# Altium footprint library ST7789-13PIN.PcbLib: 1 footprints
Each footprint in its own frame and in the unit in brackets; x right, y up, seen from the top. Pads: shape width x height; smd on the part's side, far side on the other; paste and mask are expansions set on the pad; w line width, h text height; cw(c..) or ccw(c..) is an arc to the next point about the centre after c.
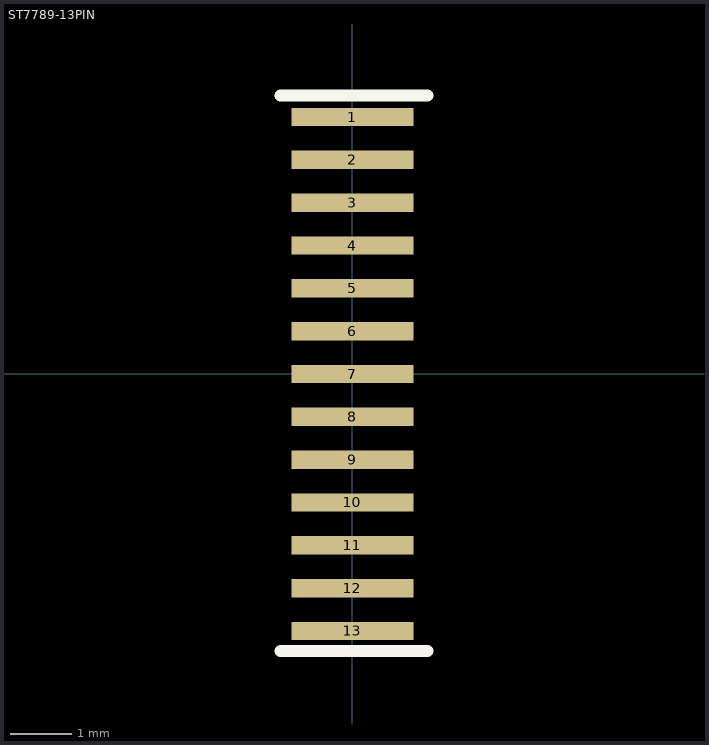
[diagram p0: the footprint, top view; thin cyan lines are the x and y axes]

## ST7789-13PIN [mm]
pads (13):
  rect 2x0.3 smd: 1(0,4.2) 2(0,3.5) 3(0,2.8) 4(0,2.1) 5(0,1.4) 6(0,0.7) 7(0,0) 8(0,-0.7) 9(0,-1.4) 10(0,-2.1) 11(0,-2.8) 12(0,-3.5) 13(0,-4.2)
Top Overlay:
  lines w0.2: -1.175,-4.525 1.225,-4.525 ; -1.175,4.55 1.225,4.55
Top Assembly:
  lines w0.1: -1.175,-4.525 1.225,-4.525 ; -1.175,4.55 1.225,4.55
  text "'.Designator'" at -0.925,-0.25 h0.7
3D body "display.stp": height 3.6, standoff 2, extent -19,-8.8 12,8.8